# EAGLE library part MC100EP16DTG (library ON Semiconductor_By_element14_Batch_1)
ECL Differential Receiver/Driver
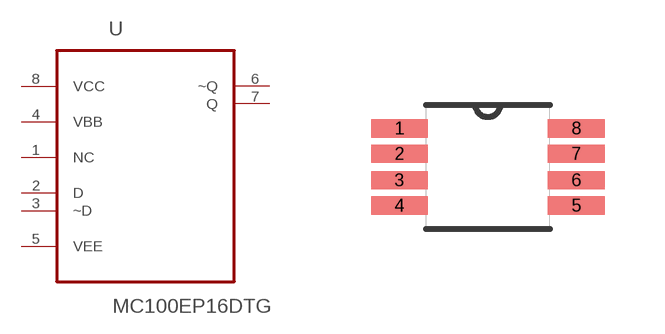
[diagram p106: symbol with the pads of SOP65P490X110-8N; footprint SOP65P490X110-8N]

Designator prefix U

## MC100EP16DTG (MPN: MC100EP16DTG; OC_FARNELL: 1607763; OC_NEWARK: 71J5410; P1I: o; PACKAGE: TSSOP-8; SUPPLIER: On Semiconductors)  [SOP65P490X110-8N]
1  NC  nc
2  D  in
3  ~D  in
4  VBB  pas
5  VEE  pwr
6  ~Q  out
7  Q  out
8  VCC  pwr

## Footprint SOP65P490X110-8N (pad centres in mm)
smd 1.422 x 0.457: 1 -2.21,0.965; 2 -2.21,0.33; 3 -2.21,-0.33; 4 -2.21,-0.965; 5 2.21,-0.965; 6 2.21,-0.33; 7 2.21,0.33; 8 2.21,0.965